# Altium footprint library EE25-13-7_Horizontal.PcbLib: 1 footprints
Each footprint in its own frame and in the unit in brackets; x right, y up, seen from the top. Pads: shape width x height; smd on the part's side, far side on the other; paste and mask are expansions set on the pad; w line width, h text height; cw(c..) or ccw(c..) is an arc to the next point about the centre after c.
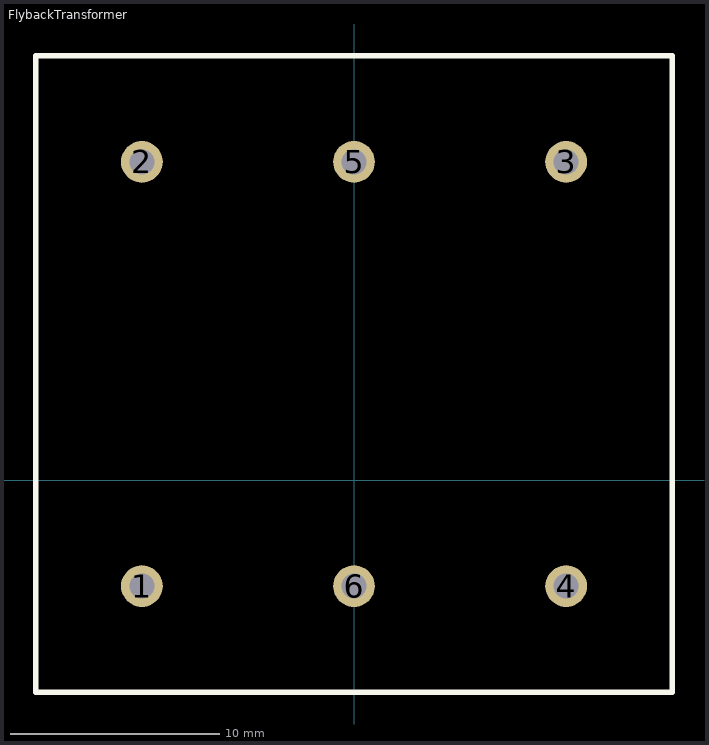
[diagram p0: the footprint, top view; thin cyan lines are the x and y axes]

## FlybackTransformer [mm] "B66317G0160X187  Gapped ferrite fore / Coil former  66208B1110T001"
pads (6):
  round 2 hole 1.2: 1(-10.16,-5.08) 2(-10.16,15.24) 3(10.16,15.24) 4(10.16,-5.08) 5(0,15.24) 6(0,-5.08)
Top Overlay:
  lines w0.254: -15.24,-10.16 -15.24,20.32 15.24,20.32 15.24,-10.16 -15.24,-10.16
3D body "E25-13-7-and-B66208B(horizontal).STEP": height 22.9, standoff -1.1, extent -13.75,-8.92 13.75,19.08